# EAGLE library part 046288008000846+ (library SamacSys_Parts)
KYOCERA - 046288008000846+ - CONNECTOR, FPC, ZIF, 0.5MM, 8WAY Source: Datasheet <https://www.mouser.com/datasheet/2/909/6288-1315498.pdf>
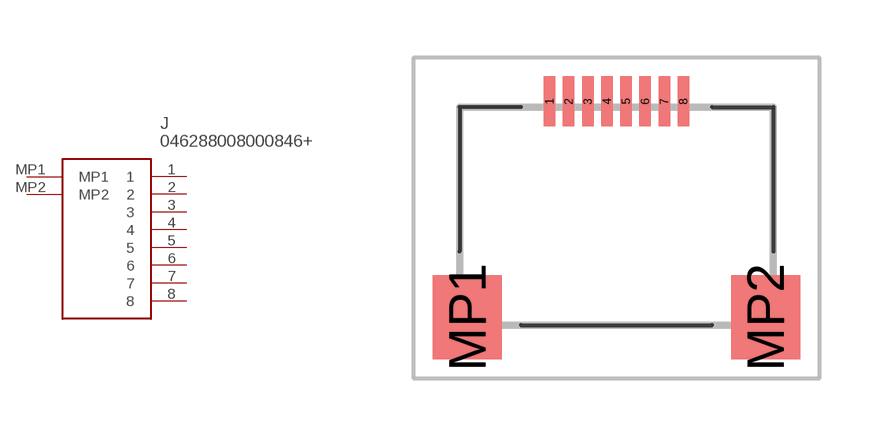
[diagram p2: symbol with the pads of 046288008000846; footprint 046288008000846]

Designator prefix J

## 046288008000846+ (DESCRIPTION: KYOCERA - 046288008000846+ - CONNECTOR, FPC, ZIF, 0.5MM, 8WAY; HEIGHT: 3.9mm; MANUFACTURER_NAME: KYOCERA; MANUFACTURER_PART_NUMBER: 046288008000846+; MOUSER_PART_NUMBER: 581-046288008000846+)  [046288008000846]
1  1
2  2
3  3
4  4
5  5
6  6
7  7
8  8
MP1  MP1
MP2  MP2

## Footprint 046288008000846 (pad centres in mm)
046288008000846+-2
smd 0.3 x 1.3: 1 -1.75,3.05; 2 -1.25,3.05; 3 -0.75,3.05; 4 -0.25,3.05; 5 0.25,3.05; 6 0.75,3.05; 7 1.25,3.05; 8 1.75,3.05
smd 1.8 x 2.2: MP1 -3.9,-2.6; MP2 3.9,-2.6